# EAGLE library part COMPARATOR-QUAD-LM339 (library FlashPCB_ICs)
LM339 - IC COMPARATOR 4 DIFF 14TSSOP Technical Specifications: Comparator Differential CMOS, MOS, Open-Collector, TTL 14-TSSOP Number of Inputs/Outputs: 4 Max Voltage Rating: Up to 38V Differential Input Range: +/- 38V Component Search: [COMPONENT NAME / MFG PN] <https://www.flashpcb.com/components> Datasheet: LM339B, LM2901B, LM339, LM239, LM139, LM2901 Quad Differential Comparators datasheet (Rev. V) <https://www.ti.com/lit/ds/symlink/lm339.pdf?HQS=dis-dk-null-digikeymode-dsf-pf-null-wwe&ts=1682603296224>
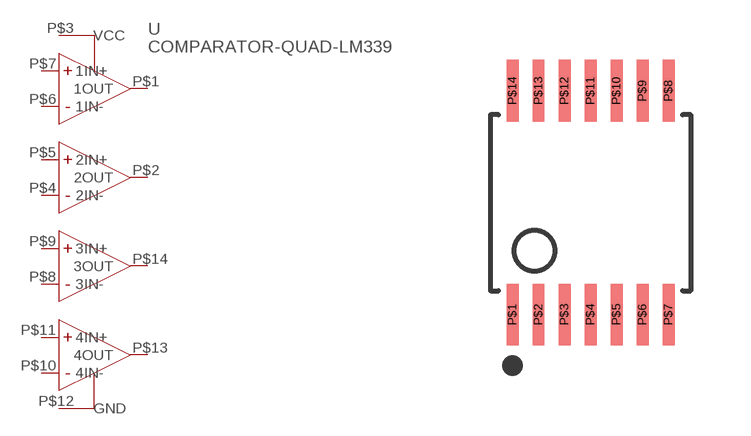
[diagram p34: symbol with the pads of 14-TSSOP(4.4MMX5.0MM); footprint 14-TSSOP(4.4MMX5.0MM)]

Designator prefix U

## COMPARATOR-QUAD-LM339PW  [14-TSSOP(4.4MMX5.0MM)]
P$1  1OUT
P$2  2OUT
P$3  VCC
P$4  2IN-
P$5  2IN+
P$6  1IN-
P$7  1IN+
P$8  3IN-
P$9  3IN+
P$10  4IN-
P$11  4IN+
P$12  GND
P$13  4OUT
P$14  3OUT

## Footprint 14-TSSOP(4.4MMX5.0MM) (pad centres in mm)
smd 0.3 x 1.55: P$1 -1.95,-2.8; P$2 -1.3,-2.8; P$3 -0.65,-2.8; P$4 0,-2.8; P$5 0.65,-2.8; P$6 1.3,-2.8; P$7 1.95,-2.8; P$8 1.95,2.8; P$9 1.3,2.8; P$10 0.65,2.8; P$11 0,2.8; P$12 -0.65,2.8; P$13 -1.3,2.8; P$14 -1.95,2.8